# Altium footprint library MSOP_SOP_SSOP_TSOP_TSSOP.PcbLib: 24 footprints (part 2 of 2)
Each footprint in its own frame and in the unit in brackets; x right, y up, seen from the top. Pads: shape width x height; smd on the part's side, far side on the other; paste and mask are expansions set on the pad; w line width, h text height; cw(c..) or ccw(c..) is an arc to the next point about the centre after c.
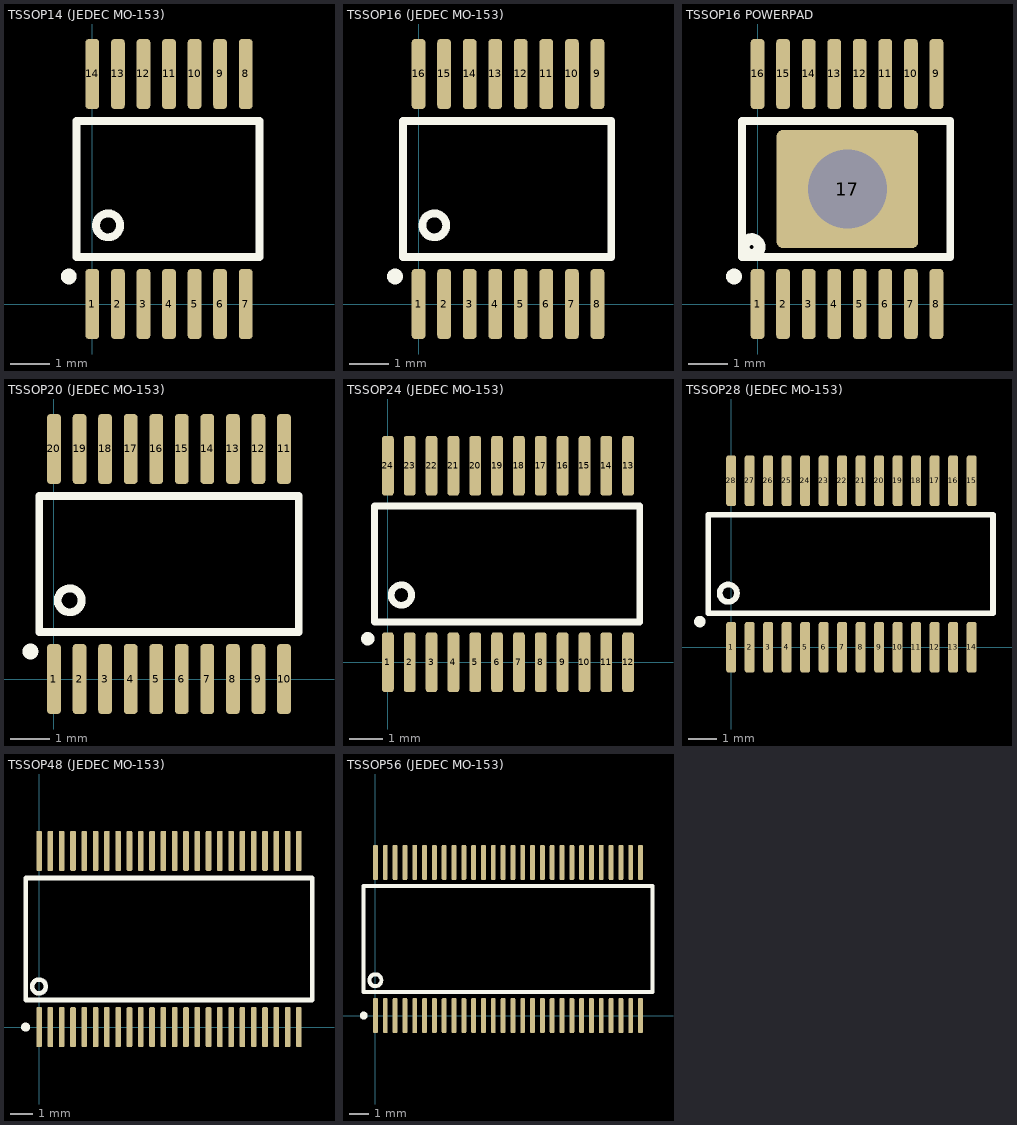
[diagram p1: the footprints below, top view; thin cyan lines are the x and y axes]

## TSSOP14 (JEDEC MO-153) [mm]
pads (14):
  rrect50% 0.35x1.78 smd: 1(0,0) 2(0.65,0) 3(1.3,0) 4(1.95,0) 5(2.6,0) 6(3.25,0) 7(3.9,0) 8(3.9,5.85) 9(3.25,5.85) 10(2.6,5.85) 11(1.95,5.85) 12(1.3,5.85) 13(0.65,5.85) 14(0,5.85)
Top Overlay:
  circle w0.2: c-0.6,0.7 r0.1
  circle w0.2: c0.4,2 r0.304
  lines w0.2: -0.4,1.2 4.25,1.2 4.25,4.65 -0.4,4.65 -0.4,1.2
Top Assembly:
  text ".Designator" at -1.499,3.167 h0.7
3D body "User Library-tssop14-2.STEP": height 1.2, standoff 0, extent -0.6,-0.275 4.5,6.125

## TSSOP16 (JEDEC MO-153) [mm]
pads (16):
  rrect50% 0.35x1.78 smd: 1(0,0) 2(0.65,0) 3(1.3,0) 4(1.95,0) 5(2.6,0) 6(3.25,0) 7(3.9,0) 8(4.55,0) 9(4.55,5.85) 10(3.9,5.85) 11(3.25,5.85) 12(2.6,5.85) 13(1.95,5.85) 14(1.3,5.85) 15(0.65,5.85) 16(0,5.85)
Top Overlay:
  circle w0.2: c-0.6,0.7 r0.1
  circle w0.2: c0.4,2 r0.304
  lines w0.2: -0.4,1.2 4.9,1.2 4.9,4.65 -0.4,4.65 -0.4,1.2
Top Assembly:
  text ".Designator" at -1.199,3.167 h0.7
3D body "User Library-IPC SO.STEP": height 1.25, standoff 0, extent -0.28,-0.316 4.82,6.14

## TSSOP16 POWERPAD [mm]
pads (17):
  rrect50% 0.35x1.78 smd: 1(0,0) 2(0.65,0) 3(1.3,0) 4(1.95,0) 5(2.6,0) 6(3.25,0) 7(3.9,0) 8(4.55,0) 9(4.55,5.85) 10(3.9,5.85) 11(3.25,5.85) 12(2.6,5.85) 13(1.95,5.85) 14(1.3,5.85) 15(0.65,5.85) 16(0,5.85)
  rrect10% 3.6x3 hole 2: 17(2.286,2.925)
Top Overlay:
  circle w0.2: c-0.6,0.7 r0.1
  circle w0.3: c-0.15,1.45 r0.2
  lines w0.2: -0.4,1.2 4.9,1.2 4.9,4.65 -0.4,4.65 -0.4,1.2
Top Assembly:
  text ".Designator" at -1.199,3.167 h0.7
3D body "User Library-IPC SO.STEP": height 1.25, standoff 0, extent -0.28,-0.316 4.82,6.14

## TSSOP20 (JEDEC MO-153) [mm]
pads (20):
  rrect50% 0.35x1.78 smd: 1(0,0) 2(0.65,0) 3(1.3,0) 4(1.95,0) 5(2.6,0) 6(3.25,0) 7(3.9,0) 8(4.55,0) 9(5.2,0) 10(5.85,0) 11(5.85,5.85) 12(5.2,5.85) 13(4.55,5.85) 14(3.9,5.85) 15(3.25,5.85) 16(2.6,5.85) 17(1.95,5.85) 18(1.3,5.85) 19(0.65,5.85) 20(0,5.85)
Top Overlay:
  circle w0.2: c-0.6,0.7 r0.1
  circle w0.2: c0.4,2 r0.304
  lines w0.2: -0.375,1.2 6.225,1.2 6.225,4.65 -0.375,4.65 -0.375,1.2
Top Assembly:
  text ".Designator" at -0.599,3.167 h0.7
3D body "User Library-TSSOP-20.STEP": height 1.2, standoff 0, extent -0.375,-0.35 6.225,6.2

## TSSOP24 (JEDEC MO-153) [mm]
pads (24):
  rrect50% 0.35x1.78 smd: 1(0,0) 2(0.65,0) 3(1.3,0) 4(1.95,0) 5(2.6,0) 6(3.25,0) 7(3.9,0) 8(4.55,0) 9(5.2,0) 10(5.85,0) 11(6.5,0) 12(7.15,0) 13(7.15,5.85) 14(6.5,5.85) 15(5.85,5.85) 16(5.2,5.85) 17(4.55,5.85) 18(3.9,5.85) 19(3.25,5.85) 20(2.6,5.85) 21(1.95,5.85) 22(1.3,5.85) 23(0.65,5.85) 24(0,5.85)
Top Overlay:
  circle w0.2: c0.4,2 r0.304
  circle w0.2: c-0.6,0.7 r0.1
  lines w0.2: -0.4,1.2 -0.4,4.65 7.5,4.65 7.5,1.2 -0.4,1.2
Top Assembly:
  text ".Designator" at 0.098,2.992 h0.7
3D body "SW3dPS-AD8400 TSSOP.STEP": height 1.17, standoff -0.01, extent -0.375,-0.275 7.515,6.132

## TSSOP28 (JEDEC MO-153) [mm]
pads (28):
  rrect50% 0.35x1.78 smd: 1(0,0) 2(0.65,0) 3(1.3,0) 4(1.95,0) 5(2.6,0) 6(3.25,0) 7(3.9,0) 8(4.55,0) 9(5.2,0) 10(5.85,0) 11(6.5,0) 12(7.15,0) 13(7.8,0) 14(8.45,0) 15(8.45,5.85) 16(7.8,5.85) 17(7.15,5.85) 18(6.5,5.85) 19(5.85,5.85) 20(5.2,5.85) 21(4.55,5.85) 22(3.9,5.85) 23(3.25,5.85) 24(2.6,5.85) 25(1.95,5.85) 26(1.3,5.85) 27(0.65,5.85) 28(0,5.85)
Top Overlay:
  circle w0.2: c-1.1,0.9 r0.1
  circle w0.2: c-0.1,1.9 r0.304
  lines w0.2: -0.8,1.2 9.2,1.2 9.2,4.65 -0.8,4.65 -0.8,1.2
Top Assembly:
  text ".Designator" at 0.798,2.692 h0.7

## TSSOP48 (JEDEC MO-153) [mm]
pads (48):
  rrect50% 0.25x1.78 smd: 1(0,0) 2(0.5,0) 3(1,0) 4(1.5,0) 5(2,0) 6(2.5,0) 7(3,0) 8(3.5,0) 9(4,0) 10(4.5,0) 11(5,0) 12(5.5,0) 13(6,0) 14(6.5,0) 15(7,0) 16(7.5,0) 17(8,0) 18(8.5,0) 19(9,0) 20(9.5,0) 21(10,0) 22(10.5,0) 23(11,0) 24(11.5,0) 25(11.5,7.8) 26(11,7.8) 27(10.5,7.8) 28(10,7.8) 29(9.5,7.8) 30(9,7.8) 31(8.5,7.8) 32(8,7.8) 33(7.5,7.8) 34(7,7.8) 35(6.5,7.8) 36(6,7.8) 37(5.5,7.8) 38(5,7.8) 39(4.5,7.8) 40(4,7.8) 41(3.5,7.8) 42(3,7.8) 43(2.5,7.8) 44(2,7.8) 45(1.5,7.8) 46(1,7.8) 47(0.5,7.8) 48(0,7.8)
Top Overlay:
  circle w0.2: c-0.6,0 r0.1
  circle w0.2: c-0.004,1.8 r0.304
  lines w0.2: -0.6,1.2 12.1,1.2 12.1,6.6 -0.6,6.6 -0.6,1.2
Top Assembly:
  text ".Designator" at 0.602,3.367 h1
3D body "TSSOP48.STEP": height 1.25, standoff 0, extent -0.55,-0.18 12.05,7.976

## TSSOP56 (JEDEC MO-153) [mm]
pads (56):
  rrect50% 0.25x1.78 smd: 1(0,0) 2(0.5,0) 3(1,0) 4(1.5,0) 5(2,0) 6(2.5,0) 7(3,0) 8(3.5,0) 9(4,0) 10(4.5,0) 11(5,0) 12(5.5,0) 13(6,0) 14(6.5,0) 15(7,0) 16(7.5,0) 17(8,0) 18(8.5,0) 19(9,0) 20(9.5,0) 21(10,0) 22(10.5,0) 23(11,0) 24(11.5,0) 25(12,0) 26(12.5,0) 27(13,0) 28(13.5,0) 29(13.5,7.8) 30(13,7.8) 31(12.5,7.8) 32(12,7.8) 33(11.5,7.8) 34(11,7.8) 35(10.5,7.8) 36(10,7.8) 37(9.5,7.8) 38(9,7.8) 39(8.5,7.8) 40(8,7.8) 41(7.5,7.8) 42(7,7.8) 43(6.5,7.8) 44(6,7.8) 45(5.5,7.8) 46(5,7.8) 47(4.5,7.8) 48(4,7.8) 49(3.5,7.8) 50(3,7.8) 51(2.5,7.8) 52(2,7.8) 53(1.5,7.8) 54(1,7.8) 55(0.5,7.8) 56(0,7.8)
Top Overlay:
  circle w0.2: c-0.6,0 r0.1
  circle w0.2: c-0.004,1.8 r0.304
  lines w0.2: -0.6,1.2 14.1,1.2 14.1,6.6 -0.6,6.6 -0.6,1.2
Top Assembly:
  text ".Designator" at 2.202,3.667 h1
3D body "TSSOP48.STEP": height 1.25, standoff 0, extent -0.55,-0.18 12.05,7.976